# Altium schematic symbol library Infrared Phototransistors.SchLib: 1 symbol
Pins are listed as number, name and electrical type; pins without a type are passive.

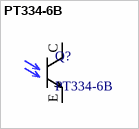
[diagram p0: symbol PT334-6B]

## PT334-6B
designator Q?
PT334-6B 940nm phototransistor; Supplier 1: Digi-Key; Supplier Part Number 1: 1080-1158-ND
footprint Phototransistor TH 5mm (Through hole 5mm Phototransistor)
pins: C, E